# EAGLE library part LTC2942 (library SHC)
The LTC®2942 measures battery charge state, battery voltage and chip temperature in handheld PC and portable product applications. Its operating range is perfectly suited for single-cell Li-Ion batteries. A precision coulomb counter integrates current through a sense resistor between the battery’s positive terminal and the load or charger. Battery voltage and on-chip temperature are measured with an internal 14-bit No Latency ΔΣ™ ADC. The three measured quantities (charge, voltage and temperature) are stored in internal registers accessible via the onboard SMBus/I2C interface. The LTC2942 features programmable high and low thresholds for all three measured quantities. If a programmed threshold is exceeded, the device communicates an alert using either the SMBus alert protocol or by setting a flag in the internal status register. The LTC2942 requires only a single low value sense resistor to set the measured current range.
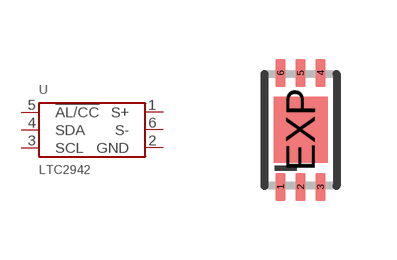
[diagram p32: symbol with the pads of DFN-6; footprint DFN-6]

Designator prefix -

## LTC2942  [DFN-6]
1  S+
2  GND
3  SCL
4  SDA
5  !AL/CC
6  S-

## Footprint DFN-6 (pad centres in mm)
smd 0.25 x 0.7: 1 -0.5,-1.425; 2 0,-1.425; 3 0.5,-1.425; 4 0.5,1.425; 5 0,1.425; 6 -0.5,1.425
smd 1.35 x 1.65: EXP 0,0